# Altium footprint library PcbLib1_MotherBoard.PcbLib: 21 footprints (part 1 of 2)
Each footprint in its own frame and in the unit in brackets; x right, y up, seen from the top. Pads: shape width x height; smd on the part's side, far side on the other; paste and mask are expansions set on the pad; w line width, h text height; cw(c..) or ccw(c..) is an arc to the next point about the centre after c.
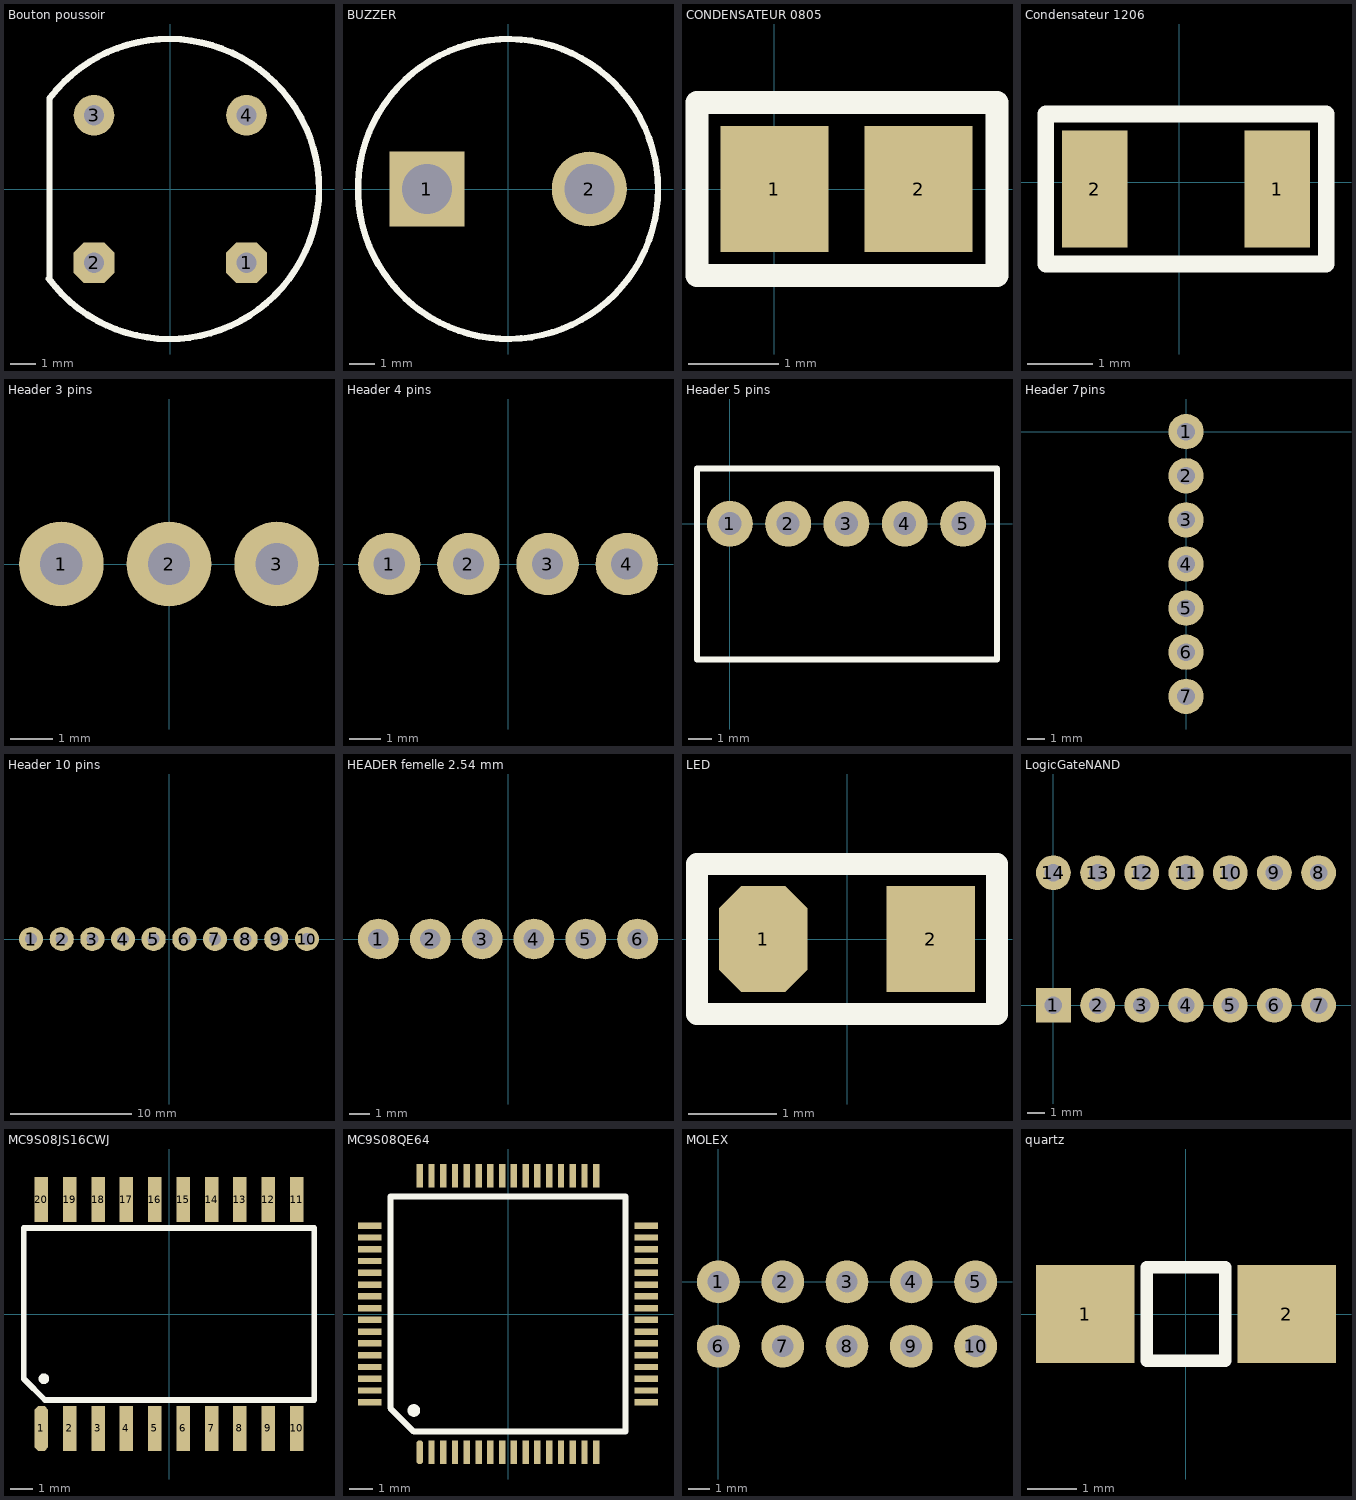
[diagram p0: the footprints below, top view; thin cyan lines are the x and y axes]

## Bouton poussoir [mm] "Bouton poussoir"
pads (4):
  oct 1.6x1.6 hole 0.8: 1(3,-2.9) 2(-3,-2.9)
  round 1.6 hole 0.8: 3(-3,2.9) 4(3,2.9)
Top Overlay:
  lines w0.254: -4.783,-3.523 ccw(c-0.05,0) -4.745,3.573 ; -4.75,-3.499 -4.75,3.5

## BUZZER [mm] "BUZZER 3V 2200Hz"
pads (2):
  rect 3x3 hole 2: 1(-3.25,0)
  round 3 hole 2: 2(3.25,0)
Top Overlay:
  circle w0.254: c0,0 r6

## CONDENSATEUR 0805 [mm] "CONDENSATEUR 0805 18pF 47 OHMS"
pads (2):
  rect 1.2x1.4 smd: 1(0,0) 2(1.6,0)
Top Overlay:
  lines w0.254: -0.86,-0.96 2.47,-0.96 2.47,0.96 -0.86,0.96 -0.86,-0.96
3D body: height 0.8, standoff 0, extent -0.19,-0.61 1.81,0.59

## Condensateur 1206 [mm] "Condensateur 1206"
pads (2):
  rect 1x1.8 smd: 1(1.5,-0.1) 2(-1.3,-0.1)
Top Overlay:
  lines w0.254: -2.05,-1.25 -2.05,1.05 2.25,1.05 2.25,-1.25 -2.05,-1.25
3D body: height 1, standoff 0, extent -1.5,-0.9 1.7,0.7

## Header 3 pins [mm] "3 pins"
pads (3):
  round 2 hole 1: 1(-2.54,0) 2(0,0) 3(2.54,0)

## Header 4 pins [mm] "4 pins"
pads (4):
  round 2 hole 1: 1(-3.81,0) 2(-1.27,0) 3(1.27,0) 4(3.81,0)

## Header 5 pins [mm] "5 pins"
pads (5):
  round 2 hole 1: 1(0,0) 2(2.54,0) 3(5.08,0) 4(7.62,0) 5(10.16,0)
Top Overlay:
  lines w0.254: -1.43,-5.92 -1.43,2.41 11.64,2.41 11.64,-5.92 -1.43,-5.92
3D body: height 2.55, standoff -8.67, extent -1.179,-5.64 11.419,2.158

## Header 7pins [mm] "7 pins"
pads (7):
  round 2 hole 1: 1(0,0) 2(0,-2.5) 3(0,-5) 4(0,-7.5) 5(0,-10) 6(0,-12.5) 7(0,-15)

## Header 10 pins [mm] "10 pins"
pads (10):
  round 2 hole 1: 1(-11.43,0) 2(-8.89,0) 3(-6.35,0) 4(-3.81,0) 5(-1.27,0) 6(1.27,0) 7(3.81,0) 8(6.35,0) 9(8.89,0) 10(11.43,0)

## HEADER femelle 2.54 mm [mm]
pads (6):
  round 2 hole 1: 1(-6.35,0) 2(-3.81,0) 3(-1.27,0) 4(1.27,0) 5(3.81,0) 6(6.35,0)

## LED [mm] "Diode électro-luminescente 1305 SML"
pads (2):
  oct 1x1.2 smd: 1(-0.95,0)
  rect 1x1.2 smd: 2(0.95,0)
Top Overlay:
  lines w0.254: -1.7,-0.85 -1.7,0.85 1.7,0.85 1.7,-0.85 -1.7,-0.85
3D body: height 0.85, standoff 0.01, extent -1.031,-0.45 1.031,0.456

## LogicGateNAND [mm] "7400"
pads (14):
  rect 2x2 hole 1: 1(0,0)
  round 2 hole 1: 2(2.54,0) 3(5.08,0) 4(7.62,0) 5(10.16,0) 6(12.7,0) 7(15.24,0) 8(15.24,7.62) 9(12.7,7.62) 10(10.16,7.62) 11(7.62,7.62) 12(5.08,7.62) 13(2.54,7.62) 14(0,7.62)
3D body: height 3.71, standoff -3.27, extent -1.815,-0.25 17.235,7.75

## MC9S08JS16CWJ [mm] "Micro-controleur 8 bits"
pads (20):
  oct 0.6x2 smd: 1(-5.715,-5.125)
  rect 0.6x2 smd: 2(-4.445,-5.125) 3(-3.175,-5.125) 4(-1.905,-5.125) 5(-0.635,-5.125) 6(0.645,-5.125) 7(1.905,-5.125) 8(3.175,-5.125) 9(4.445,-5.125) 10(5.715,-5.125) 11(5.715,5.125) 12(4.445,5.125) 13(3.175,5.125) 14(1.905,5.125) 15(0.635,5.125) 16(-0.635,5.125) 17(-1.905,5.125) 18(-3.175,5.125) 19(-4.445,5.125) 20(-5.715,5.125)
Top Overlay:
  circle w0.254: c-5.6,-2.9 r0.112
  lines w0.254: -6.5,-2.9 -6.5,3.85 6.5,3.85 6.5,-3.85 -5.55,-3.85 -6.5,-2.9
3D body: height 2.66, standoff 0, extent -6.515,-5.42 6.485,5.21

## MC9S08QE64 [mm] "Micro-controlleur 8 bits 64 broches"
pads (64):
  oct 0.27x1 smd: 1(-3.75,-5.875)
  rect 0.27x1 smd: 2(-3.25,-5.875) 3(-2.75,-5.875) 4(-2.25,-5.875) 5(-1.75,-5.875) 6(-1.25,-5.875) 7(-0.75,-5.875) 8(-0.25,-5.875) 9(0.25,-5.875) 10(0.75,-5.875) 11(1.25,-5.875) 12(1.75,-5.875) 13(2.25,-5.875) 14(2.75,-5.875) 15(3.25,-5.875) 16(3.75,-5.875) 33(3.75,5.875) 34(3.25,5.875) 35(2.75,5.875) 36(2.25,5.875) 37(1.75,5.875) 38(1.25,5.875) 39(0.75,5.875) 40(0.25,5.875) 41(-0.25,5.875) 42(-0.75,5.875) 43(-1.25,5.875) 44(-1.75,5.875) 45(-2.25,5.875) 46(-2.75,5.875) 47(-3.25,5.875) 48(-3.75,5.875)
  rect 1x0.27 smd: 17(5.875,-3.75) 18(5.875,-3.25) 19(5.875,-2.75) 20(5.875,-2.25) 21(5.875,-1.75) 22(5.875,-1.25) 23(5.875,-0.75) 24(5.875,-0.25) 25(5.875,0.25) 26(5.875,0.75) 27(5.875,1.25) 28(5.875,1.75) 29(5.875,2.25) 30(5.875,2.75) 31(5.875,3.25) 32(5.875,3.75) 49(-5.875,3.75) 50(-5.875,3.25) 51(-5.875,2.75) 52(-5.875,2.25) 53(-5.875,1.75) 54(-5.875,1.25) 55(-5.875,0.75) 56(-5.875,0.25) 57(-5.875,-0.25) 58(-5.875,-0.75) 59(-5.875,-1.25) 60(-5.875,-1.75) 61(-5.875,-2.25) 62(-5.875,-2.75) 63(-5.875,-3.25) 64(-5.875,-3.75)
Top Overlay:
  circle w0.254: c-4,-4.1 r0.141
  lines w0.254: -5,-4 -5,5 5,5 5,-5 -4,-5 -5,-4
3D body: height 1.6, standoff 0, extent -5.994,-5.969 5.994,6.019

## MOLEX [mm] "MOLEX Série Micro-Fit 3.0 43045"
pads (10):
  round 2 hole 1: 1(0,0) 2(3,0) 3(6,0) 4(9,0) 5(12,0) 6(0,-3) 7(3,-3) 8(6,-3) 9(9,-3) 10(12,-3)
3D body: height 9.95, standoff -3.14, extent -3.575,-5.47 15.575,3.3

## quartz [mm] "Quartz 32.769 KHz ABS 10"
pads (2):
  rect 2x2 smd: 1(-2.05,0) 2(2.05,0)
Top Overlay:
  lines w0.254: -0.8,-0.95 0.8,-0.95 0.8,0.95 -0.8,0.95 -0.8,-0.95
3D body: height 1.03, standoff 0.03, extent -2.45,-0.9 2.45,0.9